# Altium integrated library Analog Devices Data Converters Analog-to-Digital Converters.IntLib: 2400 symbols (part 29 of 338)
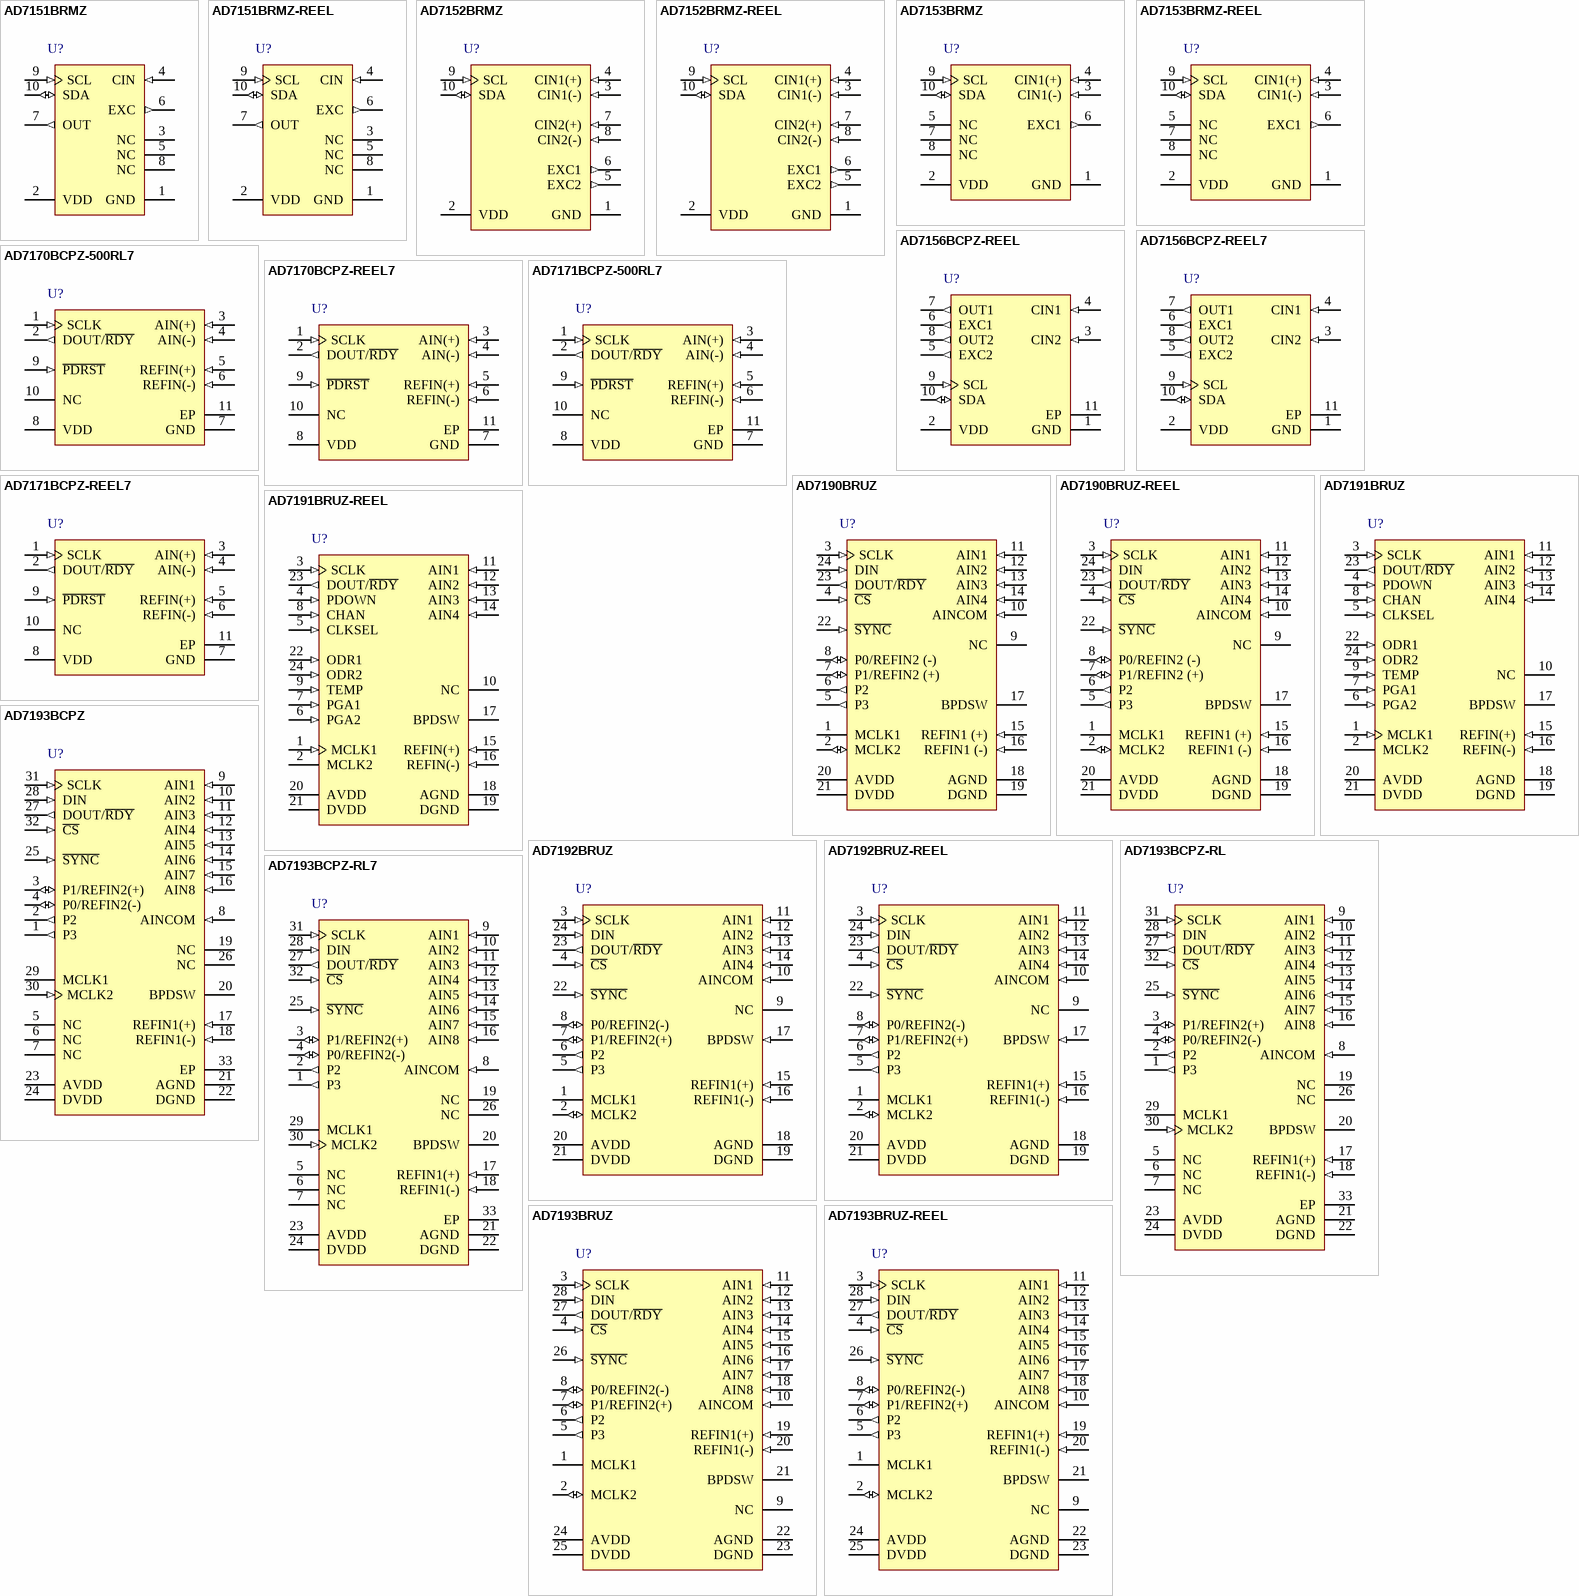
[diagram p171: symbols AD7151BRMZ to AD7193BRUZ-REEL]

## AD7156BCPZ-REEL7
designator U?
Dual 12-Bit Analog-to-Digital Converter with I2C, Serial 2-Wire, Serial Interface, 100SPS, -40 to +85 degC, CP-10-9, Pb-Free, Reel; Part Number: AD7156; Manufacturer: Analog Devices; Resolution (Bits): 12; Channels: 2; Throughput Rate (SPS): 100; Interface: I2C/Ser 2-Wire, Ser; DatasheetVersion: Rev.0; PackageVersion: 02-27-2012-B; PackageReference: CP-10-9; PackageDescription: 10-Lead Lead Frame Chip Scale Package [LFCSP_WD] 3 x 3 mm Body, Very Very Thin, Dual Lead; RoHS: Y; Packing: Reel; Mounting Technology: Surface Mount; ComponentLink1Description: Manufacturer URL; ComponentLink1URL: http://www.analog.com/en/index.html; ComponentLink2Description: Datasheet; ComponentLink2URL: http://www.analog.com/static/imported-files/data_sheets/AD7156.pdf; ComponentLink3Description: Package Specification; ComponentLink3URL: http://www.analog.com/static/imported-files/packages/CP_10_9.pdf; ComponentLink4Description: Product URL; ComponentLink4URL: http://www.analog.com/en/analog-to-digital-converters/ad-converters/ad7156/products/product.html
footprint CP-10-9_N (SON, 10-Leads, Body 3x3mm, Pitch 0.5mm, Thermal Pad 2.35x1.6mm, IPC Medium Density)
footprint CP-10-9_L (SON, 10-Leads, Body 3x3mm, Pitch 0.5mm, Thermal Pad 2.35x1.6mm, IPC High Density)
footprint CP-10-9_M (SON, 10-Leads, Body 3x3mm, Pitch 0.5mm, Thermal Pad 2.35x1.6mm, IPC Low Density)
pins: 1 GND (power) "Ground Pin.", 2 VDD (power) "Power Supply Voltage. This pin should be decoupled to GND using a low impedance capacitor, such as a0.1 uF X7R multilayer ceramic capacitor.", 3 CIN2 (in) "CDC Capacitive Input Channel 2. The measured capacitance (sensor) is connected between the EXC2 pin andthe CIN2 pin. If not used, this pin can be left open circuit or be connected to GND. When a conversion is performed on (See Datasheet)", 4 CIN1 (in) "CDC Capacitive Input Channel 1. The measured capacitance (sensor) is connected between the EXC1 pin and the CIN1 pin. If not used, this pin can be left open circuit or be connected to GND. When a conversion is performed on (See Datasheet)", 5 EXC2 (out) "CDC Excitation Output Channel 2. The measured capacitance is connected between the EXC2 pin and theCIN2 pin. If not used, this pin should be left as an open circuit. When a conversion is performed on Channel 2, the EXC2 pin (See Datasheet)", 6 EXC1 (out) "CDC Excitation Output Channel 1. The measured capacitance is connected between the EXC1 pin and theCIN1 pin. If not used, this pin should be left as an open circuit. When a conversion is performed on Channel 1, the EXC1 pin (See Datasheet)", 7 OUT1 (out) "Logic Output Channel 1. A high level on this output indicates proximity detected on CIN1.", 8 OUT2 (out) "Logic Output Channel 2. A high level on this output indicates proximity detected on CIN2.", 9 SCL (in) "Serial Interface Clock Input. This pin connects to the master clock line and requires a pull-up resistor if not provided elsewhere in the system.", 10 SDA (io) "Serial Interface Bidirectional Data. This pin connects to the master data line and requires a pull-up resistor if not provided elsewhere in the system.", 11 EP (power) "The exposed pad must be connected to GND or it must be isolated (floating)."

## AD7170BCPZ-500RL7
designator U?
Single 12-Bit Low Power Sigma-Delta Analog-to-Digital Converter with Serial, SPI Interface, 125SPS, -40 to +105 degC, CP-10-3, Pb-Free, Reel; Part Number: AD7170; Manufacturer: Analog Devices; Resolution (Bits): 12; Channels: 1; Throughput Rate (SPS): 125; Interface: Ser, SPI; DatasheetVersion: Rev.A; PackageVersion: 2005; PackageReference: CP-10-3; PackageDescription: 10-Lead Lead Frame Chip Scale Package [LFCSP_WD] 3 x 3 mm Body, Very Very Thin, Dual Lead; RoHS: Y; Packing: Reel; Mounting Technology: Surface Mount; ComponentLink1Description: Manufacturer URL; ComponentLink1URL: http://www.analog.com/en/index.html; ComponentLink2Description: Datasheet; ComponentLink2URL: http://www.analog.com/static/imported-files/data_sheets/AD7170.pdf; ComponentLink3Description: Package Specification; ComponentLink3URL: http://www.analog.com/static/imported-files/packages/PKG_PDF/LFCSP(CP)/CP_10_3.pdf; ComponentLink4Description: Product URL; ComponentLink4URL: http://www.analog.com/en/analog-to-digital-converters/ad-converters/ad7170/products/product.html
footprint CP-10-3_N (SON, 10-Leads, Body 3x3mm, Pitch 0.5mm, Thermal Pad 2.3x1.5mm, IPC Medium Density)
footprint CP-10-3_L (SON, 10-Leads, Body 3x3mm, Pitch 0.5mm, Thermal Pad 2.3x1.5mm, IPC High Density)
footprint CP-10-3_M (SON, 10-Leads, Body 3x3mm, Pitch 0.5mm, Thermal Pad 2.3x1.5mm, IPC Low Density)
pins: 1 SCLK (in) "Serial Clock Input. This serial clock input is for data transfers from the ADC. The SCLK has a Schmitt-triggered input. The serial clock can be continuous with all data transmitted in a constant train of pulses. (See Datasheet)", 2 DOUT/~{RDY} (out) "Serial Data Output/Data Ready Output. DOUT/R\D\Y\ serves a dual purpose. DOUT/R\D\Y\ operates as a data ready pin, going low to indicate the completion of a conversion. In addition, it functions as a serial data output pin (See Datasheet)", 3 AIN(+) (in) "Analog Input. AIN(+) is the positive terminal of the differential analog input pair AIN(+)/AIN(-).", 4 AIN(-) (in) "Analog Input. AIN(-) is the negative terminal of the differential analog input pair AIN(+)/AIN(-).", 5 REFIN(+) (in) "Positive Reference Input. An external reference can be applied between REFIN(+) and REFIN(-). The nominal reference voltage (REFIN(+) - REFIN(?)) is 5 V, but the part can function with a reference of 0.5 V to VDD.", 6 REFIN(-) (in) "Negative Reference Input.", 7 GND (power) "Ground Reference Point.", 8 VDD (power) "Supply Voltage, 2.7 V to 5.25 V.", 9 ~{PDRST} (in) "Power-Down/Reset. When this pin is low, the ADC is placed in power-down mode. All the logic on the chip is reset, and the DOUT/R\D\Y\ pin is tristated. When P\D\R\S\T\ is high, the ADC is taken out of power-down mode. The (See Datasheet)", 10 NC "This pin should be connected to GND for correct operation.", 11 EP (power) "Connect the exposed pad to ground."

## AD7170BCPZ-REEL7
designator U?
Single 12-Bit Low Power Sigma-Delta Analog-to-Digital Converter with Serial, SPI Interface, 125SPS, -40 to +105 degC, CP-10-3, Pb-Free, Reel; Part Number: AD7170; Manufacturer: Analog Devices; Resolution (Bits): 12; Channels: 1; Throughput Rate (SPS): 125; Interface: Ser, SPI; DatasheetVersion: Rev.A; PackageVersion: 2005; PackageReference: CP-10-3; PackageDescription: 10-Lead Lead Frame Chip Scale Package [LFCSP_WD] 3 x 3 mm Body, Very Very Thin, Dual Lead; RoHS: Y; Packing: Reel; Mounting Technology: Surface Mount; ComponentLink1Description: Manufacturer URL; ComponentLink1URL: http://www.analog.com/en/index.html; ComponentLink2Description: Datasheet; ComponentLink2URL: http://www.analog.com/static/imported-files/data_sheets/AD7170.pdf; ComponentLink3Description: Package Specification; ComponentLink3URL: http://www.analog.com/static/imported-files/packages/PKG_PDF/LFCSP(CP)/CP_10_3.pdf; ComponentLink4Description: Product URL; ComponentLink4URL: http://www.analog.com/en/analog-to-digital-converters/ad-converters/ad7170/products/product.html
footprint CP-10-3_N (SON, 10-Leads, Body 3x3mm, Pitch 0.5mm, Thermal Pad 2.3x1.5mm, IPC Medium Density)
footprint CP-10-3_L (SON, 10-Leads, Body 3x3mm, Pitch 0.5mm, Thermal Pad 2.3x1.5mm, IPC High Density)
footprint CP-10-3_M (SON, 10-Leads, Body 3x3mm, Pitch 0.5mm, Thermal Pad 2.3x1.5mm, IPC Low Density)
pins: 1 SCLK (in) "Serial Clock Input. This serial clock input is for data transfers from the ADC. The SCLK has a Schmitt-triggered input. The serial clock can be continuous with all data transmitted in a constant train of pulses. (See Datasheet)", 2 DOUT/~{RDY} (out) "Serial Data Output/Data Ready Output. DOUT/R\D\Y\ serves a dual purpose. DOUT/R\D\Y\ operates as a data ready pin, going low to indicate the completion of a conversion. In addition, it functions as a serial data output pin (See Datasheet)", 3 AIN(+) (in) "Analog Input. AIN(+) is the positive terminal of the differential analog input pair AIN(+)/AIN(-).", 4 AIN(-) (in) "Analog Input. AIN(-) is the negative terminal of the differential analog input pair AIN(+)/AIN(-).", 5 REFIN(+) (in) "Positive Reference Input. An external reference can be applied between REFIN(+) and REFIN(-). The nominal reference voltage (REFIN(+) - REFIN(?)) is 5 V, but the part can function with a reference of 0.5 V to VDD.", 6 REFIN(-) (in) "Negative Reference Input.", 7 GND (power) "Ground Reference Point.", 8 VDD (power) "Supply Voltage, 2.7 V to 5.25 V.", 9 ~{PDRST} (in) "Power-Down/Reset. When this pin is low, the ADC is placed in power-down mode. All the logic on the chip is reset, and the DOUT/R\D\Y\ pin is tristated. When P\D\R\S\T\ is high, the ADC is taken out of power-down mode. The (See Datasheet)", 10 NC "This pin should be connected to GND for correct operation.", 11 EP (power) "Connect the exposed pad to ground."

## AD7171BCPZ-500RL7
designator U?
Single 16-Bit Low Power Sigma-Delta Analog-to-Digital Converter with Serial, SPI Interface, 125SPS, -40 to +105 degC, CP-10-3, Pb-Free, Reel; Part Number: AD7171; Manufacturer: Analog Devices; Resolution (Bits): 16; Channels: 1; Throughput Rate (SPS): 125; Interface: Ser, SPI; DatasheetVersion: Rev.0; PackageVersion: 2005; PackageReference: CP-10-3; PackageDescription: 10-Lead Lead Frame Chip Scale Package [LFCSP_WD] 3 x 3 mm Body, Very Very Thin, Dual Lead; RoHS: Y; Packing: Reel; Mounting Technology: Surface Mount; ComponentLink1Description: Manufacturer URL; ComponentLink1URL: http://www.analog.com/en/index.html; ComponentLink2Description: Datasheet; ComponentLink2URL: http://www.analog.com/static/imported-files/data_sheets/AD7171.pdf; ComponentLink3Description: Package Specification; ComponentLink3URL: http://www.analog.com/static/imported-files/packages/PKG_PDF/LFCSP(CP)/CP_10_3.pdf; ComponentLink4Description: Product URL; ComponentLink4URL: http://www.analog.com/en/analog-to-digital-converters/ad-converters/ad7171/products/product.html
footprint CP-10-3_N (SON, 10-Leads, Body 3x3mm, Pitch 0.5mm, Thermal Pad 2.3x1.5mm, IPC Medium Density)
footprint CP-10-3_L (SON, 10-Leads, Body 3x3mm, Pitch 0.5mm, Thermal Pad 2.3x1.5mm, IPC High Density)
footprint CP-10-3_M (SON, 10-Leads, Body 3x3mm, Pitch 0.5mm, Thermal Pad 2.3x1.5mm, IPC Low Density)
pins: 1 SCLK (in) "Serial Clock Input. This serial clock input is for data transfers from the ADC. The SCLK has a Schmitt-triggered input. The serial clock can be continuous with all data transmitted in a constant train of pulses. (See Datasheet)", 2 DOUT/~{RDY} (out) "Serial Data Output/Data Ready Output. DOUT/R\D\Y\ serves a dual purpose. DOUT/R\D\Y\ operates as a data ready pin, going low to indicate the completion of a conversion. In addition, it functions as a serial data output pin (See Datasheet)", 3 AIN(+) (in) "Analog Input. AIN(+) is the positive terminal of the differential analog input pair AIN(+)/AIN(-).", 4 AIN(-) (in) "Analog Input. AIN(-) is the negative terminal of the differential analog input pair AIN(+)/(AIN-).", 5 REFIN(+) (in) "Positive Reference Input. An external reference can be applied between REFIN(+) and REFIN(-). The nominal reference voltage (REFIN(+)- REFIN(-)) is 5 V, but the part can function with a reference of 0.5 V to VDD.", 6 REFIN(-) (in) "Negative Reference Input.", 7 GND (power) "Ground Reference Point.", 8 VDD (power) "Supply Voltage, 2.7 V to 5.25 V.", 9 ~{PDRST} (in) "Power-Down/Reset. When this pin is low, the ADC is placed in power-down mode. All the logic on the chip is reset and the DOUT/R\D\Y\ pin is tristated. When P\D\R\S\T\ is high, the ADC is taken out of power-down mode. The (See Datasheet)", 10 NC "This pin should be connected to GND for correct operation.", 11 EP (power) "Connect the exposed pad to ground."

## AD7171BCPZ-REEL7
designator U?
Single 16-Bit Low Power Sigma-Delta Analog-to-Digital Converter with Serial, SPI Interface, 125SPS, -40 to +105 degC, CP-10-3, Pb-Free, Reel; Part Number: AD7171; Manufacturer: Analog Devices; Resolution (Bits): 16; Channels: 1; Throughput Rate (SPS): 125; Interface: Ser, SPI; DatasheetVersion: Rev.0; PackageVersion: 2005; PackageReference: CP-10-3; PackageDescription: 10-Lead Lead Frame Chip Scale Package [LFCSP_WD] 3 x 3 mm Body, Very Very Thin, Dual Lead; RoHS: Y; Packing: Reel; Mounting Technology: Surface Mount; ComponentLink1Description: Manufacturer URL; ComponentLink1URL: http://www.analog.com/en/index.html; ComponentLink2Description: Datasheet; ComponentLink2URL: http://www.analog.com/static/imported-files/data_sheets/AD7171.pdf; ComponentLink3Description: Package Specification; ComponentLink3URL: http://www.analog.com/static/imported-files/packages/PKG_PDF/LFCSP(CP)/CP_10_3.pdf; ComponentLink4Description: Product URL; ComponentLink4URL: http://www.analog.com/en/analog-to-digital-converters/ad-converters/ad7171/products/product.html
footprint CP-10-3_N (SON, 10-Leads, Body 3x3mm, Pitch 0.5mm, Thermal Pad 2.3x1.5mm, IPC Medium Density)
footprint CP-10-3_L (SON, 10-Leads, Body 3x3mm, Pitch 0.5mm, Thermal Pad 2.3x1.5mm, IPC High Density)
footprint CP-10-3_M (SON, 10-Leads, Body 3x3mm, Pitch 0.5mm, Thermal Pad 2.3x1.5mm, IPC Low Density)
pins: 1 SCLK (in) "Serial Clock Input. This serial clock input is for data transfers from the ADC. The SCLK has a Schmitt-triggered input. The serial clock can be continuous with all data transmitted in a constant train of pulses. (See Datasheet)", 2 DOUT/~{RDY} (out) "Serial Data Output/Data Ready Output. DOUT/R\D\Y\ serves a dual purpose. DOUT/R\D\Y\ operates as a data ready pin, going low to indicate the completion of a conversion. In addition, it functions as a serial data output pin (See Datasheet)", 3 AIN(+) (in) "Analog Input. AIN(+) is the positive terminal of the differential analog input pair AIN(+)/AIN(-).", 4 AIN(-) (in) "Analog Input. AIN(-) is the negative terminal of the differential analog input pair AIN(+)/(AIN-).", 5 REFIN(+) (in) "Positive Reference Input. An external reference can be applied between REFIN(+) and REFIN(-). The nominal reference voltage (REFIN(+)- REFIN(-)) is 5 V, but the part can function with a reference of 0.5 V to VDD.", 6 REFIN(-) (in) "Negative Reference Input.", 7 GND (power) "Ground Reference Point.", 8 VDD (power) "Supply Voltage, 2.7 V to 5.25 V.", 9 ~{PDRST} (in) "Power-Down/Reset. When this pin is low, the ADC is placed in power-down mode. All the logic on the chip is reset and the DOUT/R\D\Y\ pin is tristated. When P\D\R\S\T\ is high, the ADC is taken out of power-down mode. The (See Datasheet)", 10 NC "This pin should be connected to GND for correct operation.", 11 EP (power) "Connect the exposed pad to ground."

## AD7190BRUZ
designator U?
Quad 24-Bit Ultralow Noise Sigma-Delta Analog-to-Digital Converter with Serial, SPI Interface and PGA, 4.8KSPS, -40 to +105 degC, RU-24, Pb-Free, Tube; Part Number: AD7190; Manufacturer: Analog Devices; Resolution (Bits): 24; Channels: 4; Throughput Rate (SPS): 4.8K; Interface: Ser, SPI; DatasheetVersion: Rev.B; PackageVersion: 2002; PackageReference: RU-24; PackageDescription: 24-Lead Thin Shrink Small Outline Package [TSSOP]; RoHS: Y; Packing: Tube; Mounting Technology: Surface Mount; Code_JEDEC: MO-153-AD; ComponentLink1Description: Manufacturer URL; ComponentLink1URL: http://www.analog.com/en/index.html; ComponentLink2Description: Datasheet; ComponentLink2URL: http://www.analog.com/static/imported-files/data_sheets/AD7190.pdf; ComponentLink3Description: Package Specification; ComponentLink3URL: http://www.analog.com/static/imported-files/packages/380523655245964505593671154107510036154RU24.pdf; ComponentLink4Description: Product URL; ComponentLink4URL: http://www.analog.com/en/analog-to-digital-converters/ad-converters/ad7190/products/product.html
footprint RU-24_N (TSOP, 24-Leads, Body 7.8x4.4mm, Pitch 0.65mm, IPC Medium Density)
footprint RU-24_L (TSOP, 24-Leads, Body 7.8x4.4mm, Pitch 0.65mm, IPC High Density)
footprint RU-24_M (TSOP, 24-Leads, Body 7.8x4.4mm, Pitch 0.65mm, IPC Low Density)
pins: 1 MCLK1 "When the master clock for the device is provided externally by a crystal, the crystal is connected between MCLK1 and MCLK2.", 2 MCLK2 (io) "Master Clock Signal for the Device. The AD7190 has an internal 4.92 MHz clock. This internal clock can be made available on the MCLK2 pin. The clock for the AD7190 can be provided externally also in the form of a crystal or (See Datasheet)", 3 SCLK (in) "Serial Clock Input. This serial clock input is for data transfers to and from the ADC. The SCLK has a Schmitt-triggered input, making the interface suitable for opto-isolated applications. The serial clock can be continuous (See Datasheet)", 4 ~{CS} (in) "Chip Select Input. This is an active low logic input used to select the ADC. C\S\ can be used to select the ADC in systems with more than one device on the serial bus or as a frame synchronization signal in communicating (See Datasheet)", 5 P3 (out) "Digital Output Pin. This pin can function as a general-purpose output bit referenced between AVDD and AGND.", 6 P2 (out) "Digital Output Pin. This pin can function as a general-purpose output bit referenced between AVDD and AGND.", 7 P1/REFIN2 (+) (io) "Digital Output Pin/Positive Reference Input. This pin functions as a general-purpose output bit referenced between AVDD and AGND. When REFSEL = 1, this pin functions as REFIN2(+). An external reference can be applied between (See Datasheet)", 8 P0/REFIN2 (-) (io) "Digital Output Pin/Negative Reference Input. This pin functions as a general-purpose output bit referenced between AVDD and AGND. When REFSEL = 1, this pin functions as REFIN2(-). This reference input can lie anywhere (See Datasheet)", 9 NC "No Connect. This pin should be tied to AGND.", 10 AINCOM (in) "Analog Input AIN1 to Analog Input AIN4 are referenced to this input when configured for pseudo differential operation.", 11 AIN1 (in) "Analog Input. It can be configured as the positive input of a fully differential input pair when used with AIN2 or as a pseudo differential input when used with AINCOM.", 12 AIN2 (in) "Analog Input. It can be configured as the negative input of a fully differential input pair when used with AIN1 or as a pseudo differential input when used with AINCOM.", 13 AIN3 (in) "Analog Input. It can be configured as the positive input of a fully differential input pair when used with AIN4 or as a pseudo differential input when used with AINCOM.", 14 AIN4 (in) "Analog Input. It can be configured as the negative input of a fully differential input pair when used with AIN3 or as a pseudo differential input when used with AINCOM.", 15 REFIN1 (+) (in) "Positive Reference Input. An external reference can be applied between REFIN1(+) and REFIN1(-). REFIN1(+) can lie anywhere between AVDD and AGND + 1 V. The nominal reference voltage, (REFIN1(+) - REFIN1(-)), is AVDD, but the (See Datasheet)", 16 REFIN1 (-) (in) "Negative Reference Input. This reference input can lie anywhere between AGND and AVDD -1 V.", 17 BPDSW "Bridge Power-Down Switch to AGND.", 18 AGND (power) "Analog Ground Reference Point.", 19 DGND (power) "Digital Ground Reference Point.", 20 AVDD (power) "Analog Supply Voltage, 4.75 V to 5.25 V. AVDD is independent of DVDD.", 21 DVDD (power) "Digital Supply Voltage, 2.7 V to 5.25 V. DVDD is independent of AVDD.", 22 ~{SYNC} (in) "Logic input that allows for synchronization of the digital filters and analog modulators when using multiple AD7190 devices. While S\Y\N\C\ is low, the nodes of the digital filter, the filter control logic, and the (See Datasheet)", 23 DOUT/~{RDY} (out) "Serial Data Output/Data Ready Output. DOUT/R\D\Y\serves a dual purpose. It functions as a serial data output pin to access the output shift register of the ADC. The output shift register can contain data from any of the (See Datasheet)", 24 DIN (in) "Serial Data Input to the Input Shift Register on the ADC. Data in this shift register is transferred to the control registers in the ADC, with the register selection bits of the communications register identifying the (See Datasheet)"

## AD7190BRUZ-REEL
designator U?
Quad 24-Bit Ultralow Noise Sigma-Delta Analog-to-Digital Converter with Serial, SPI Interface and PGA, 4.8KSPS, -40 to +105 degC, RU-24, Pb-Free, Reel; Part Number: AD7190; Manufacturer: Analog Devices; Resolution (Bits): 24; Channels: 4; Throughput Rate (SPS): 4.8K; Interface: Ser, SPI; DatasheetVersion: Rev.B; PackageVersion: 2002; PackageReference: RU-24; PackageDescription: 24-Lead Thin Shrink Small Outline Package [TSSOP]; RoHS: Y; Packing: Reel; Mounting Technology: Surface Mount; Code_JEDEC: MO-153-AD; ComponentLink1Description: Manufacturer URL; ComponentLink1URL: http://www.analog.com/en/index.html; ComponentLink2Description: Datasheet; ComponentLink2URL: http://www.analog.com/static/imported-files/data_sheets/AD7190.pdf; ComponentLink3Description: Package Specification; ComponentLink3URL: http://www.analog.com/static/imported-files/packages/380523655245964505593671154107510036154RU24.pdf; ComponentLink4Description: Product URL; ComponentLink4URL: http://www.analog.com/en/analog-to-digital-converters/ad-converters/ad7190/products/product.html
footprint RU-24_N (TSOP, 24-Leads, Body 7.8x4.4mm, Pitch 0.65mm, IPC Medium Density)
footprint RU-24_L (TSOP, 24-Leads, Body 7.8x4.4mm, Pitch 0.65mm, IPC High Density)
footprint RU-24_M (TSOP, 24-Leads, Body 7.8x4.4mm, Pitch 0.65mm, IPC Low Density)
pins: 1 MCLK1 "When the master clock for the device is provided externally by a crystal, the crystal is connected between MCLK1 and MCLK2.", 2 MCLK2 (io) "Master Clock Signal for the Device. The AD7190 has an internal 4.92 MHz clock. This internal clock can be made available on the MCLK2 pin. The clock for the AD7190 can be provided externally also in the form of a crystal or (See Datasheet)", 3 SCLK (in) "Serial Clock Input. This serial clock input is for data transfers to and from the ADC. The SCLK has a Schmitt-triggered input, making the interface suitable for opto-isolated applications. The serial clock can be continuous (See Datasheet)", 4 ~{CS} (in) "Chip Select Input. This is an active low logic input used to select the ADC. C\S\ can be used to select the ADC in systems with more than one device on the serial bus or as a frame synchronization signal in communicating (See Datasheet)", 5 P3 (out) "Digital Output Pin. This pin can function as a general-purpose output bit referenced between AVDD and AGND.", 6 P2 (out) "Digital Output Pin. This pin can function as a general-purpose output bit referenced between AVDD and AGND.", 7 P1/REFIN2 (+) (io) "Digital Output Pin/Positive Reference Input. This pin functions as a general-purpose output bit referenced between AVDD and AGND. When REFSEL = 1, this pin functions as REFIN2(+). An external reference can be applied between (See Datasheet)", 8 P0/REFIN2 (-) (io) "Digital Output Pin/Negative Reference Input. This pin functions as a general-purpose output bit referenced between AVDD and AGND. When REFSEL = 1, this pin functions as REFIN2(-). This reference input can lie anywhere (See Datasheet)", 9 NC "No Connect. This pin should be tied to AGND.", 10 AINCOM (in) "Analog Input AIN1 to Analog Input AIN4 are referenced to this input when configured for pseudo differential operation.", 11 AIN1 (in) "Analog Input. It can be configured as the positive input of a fully differential input pair when used with AIN2 or as a pseudo differential input when used with AINCOM.", 12 AIN2 (in) "Analog Input. It can be configured as the negative input of a fully differential input pair when used with AIN1 or as a pseudo differential input when used with AINCOM.", 13 AIN3 (in) "Analog Input. It can be configured as the positive input of a fully differential input pair when used with AIN4 or as a pseudo differential input when used with AINCOM.", 14 AIN4 (in) "Analog Input. It can be configured as the negative input of a fully differential input pair when used with AIN3 or as a pseudo differential input when used with AINCOM.", 15 REFIN1 (+) (in) "Positive Reference Input. An external reference can be applied between REFIN1(+) and REFIN1(-). REFIN1(+) can lie anywhere between AVDD and AGND + 1 V. The nominal reference voltage, (REFIN1(+) - REFIN1(-)), is AVDD, but the (See Datasheet)", 16 REFIN1 (-) (in) "Negative Reference Input. This reference input can lie anywhere between AGND and AVDD -1 V.", 17 BPDSW "Bridge Power-Down Switch to AGND.", 18 AGND (power) "Analog Ground Reference Point.", 19 DGND (power) "Digital Ground Reference Point.", 20 AVDD (power) "Analog Supply Voltage, 4.75 V to 5.25 V. AVDD is independent of DVDD.", 21 DVDD (power) "Digital Supply Voltage, 2.7 V to 5.25 V. DVDD is independent of AVDD.", 22 ~{SYNC} (in) "Logic input that allows for synchronization of the digital filters and analog modulators when using multiple AD7190 devices. While S\Y\N\C\ is low, the nodes of the digital filter, the filter control logic, and the (See Datasheet)", 23 DOUT/~{RDY} (out) "Serial Data Output/Data Ready Output. DOUT/R\D\Y\serves a dual purpose. It functions as a serial data output pin to access the output shift register of the ADC. The output shift register can contain data from any of the (See Datasheet)", 24 DIN (in) "Serial Data Input to the Input Shift Register on the ADC. Data in this shift register is transferred to the control registers in the ADC, with the register selection bits of the communications register identifying the (See Datasheet)"

## AD7191BRUZ
designator U?
3 Channel 24-Bit Ultralow Noise Sigma-Delta Analog-to-Digital Converter for Bridge Sensors with Serial, SPI Interface, Pin-Programmable, 120SPS, -40 to +105 degC, RU-24, Pb-Free, Tube; Part Number: AD7191; Manufacturer: Analog Devices; Resolution (Bits): 24; Channels: 3; Throughput Rate (SPS): 120; Interface: Ser, SPI; DatasheetVersion: Rev.A; PackageVersion: 2002; PackageReference: RU-24; PackageDescription: 24-Lead Thin Shrink Small Outline Package [TSSOP]; RoHS: Y; Packing: Tube; Mounting Technology: Surface Mount; Code_JEDEC: MO-153-AD; ComponentLink1Description: Manufacturer URL; ComponentLink1URL: http://www.analog.com/en/index.html; ComponentLink2Description: Datasheet; ComponentLink2URL: http://www.analog.com/static/imported-files/data_sheets/AD7191.pdf; ComponentLink3Description: Package Specification; ComponentLink3URL: http://www.analog.com/static/imported-files/packages/380523655245964505593671154107510036154RU24.pdf; ComponentLink4Description: Product URL; ComponentLink4URL: http://www.analog.com/en/analog-to-digital-converters/ad-converters/ad7191/products/product.html
footprint RU-24_N (TSOP, 24-Leads, Body 7.8x4.4mm, Pitch 0.65mm, IPC Medium Density)
footprint RU-24_L (TSOP, 24-Leads, Body 7.8x4.4mm, Pitch 0.65mm, IPC High Density)
footprint RU-24_M (TSOP, 24-Leads, Body 7.8x4.4mm, Pitch 0.65mm, IPC Low Density)
pins: 1 MCLK1 (in) "When the master clock for the device is provided externally by a crystal, the crystal is connected between MCLK1 and MCLK2. Alternatively, the MCLK1 pin can be driven with a CMOS-compatible clock and MCLK2 left unconnected.", 2 MCLK2 "When the master clock for the device is provided externally by a crystal, the crystal is connected between MCLK1 and MCLK2.", 3 SCLK (in) "Serial Clock Input. This serial clock input is for controlling data transfers from the ADC. The SCLK has a Schmitt-triggered input, making the interface suitable for opto-isolated applications. The serial clock can be (See Datasheet)", 4 PDOWN (in) "Power-Down Pin, Digital Input. The PDOWN pin functions as a power-down pin and a reset pin. When PDOWN is taken high, the AD7191 is powered down and the DOUT/R\D\Y\ pin is tristated. The circuitry and serial interface are (See Datasheet)", 5 CLKSEL (in) "Clock Select, Digital Input Pin. This pin selects the clock source to be used by the AD7191. When CLKSEL is tied low, the external clock/crystal is used as the clock source. When CLKSEL is tied high, the internal 4.92 MHz (See Datasheet)", 6 PGA2 (in) "Gain Select, Digital Input Pin. This pin is used in conjunction with PGA1 to set the gain. See Table 7.", 7 PGA1 (in) "Gain Select, Digital Input Pin. This pin is used in conjunction with PGA2 to set the gain. See Table 7.", 8 CHAN (in) "Channel Select, Digital Input Pin. This pin is used to select the channel. When CHAN is tied low, channel AIN1/AIN2 is selected. When CHAN is tied high, channel AIN3/AIN4 is selected.", 9 TEMP (in) "Temperature Sensor Select, Digital Input Pin. The internal temperature sensor is selected when TEMP is tied high. When TEMP is tied low, the analog input channel AIN1/AIN2 or AIN3/AIN4 is the selected channel (as determined (See Datasheet)", 10 NC "No Connect. This pin should be tied to AGND.", 11 AIN1 (in) "Analog Input. AIN1 is the positive input of the fully differential input pair AIN1/AIN2.", 12 AIN2 (in) "Analog Input. AIN2 is the negative input of the fully differential input pair AIN1/AIN2.", 13 AIN3 (in) "Analog Input. AIN3 is the positive input of the fully differential input pair AIN3/AIN4.", 14 AIN4 (in) "Analog Input. AIN4 is the negative input of the fully differential input pair AIN3/AIN4.", 15 REFIN(+) (in) "Positive Reference Input. An external reference can be applied between REFIN(+) and REFIN(-). REFIN(+) can lie anywhere between AVDD and AGND + 1 V. The nominal reference voltage, (REFIN(+) - REFIN(-)), is AVDD, but the part (See Datasheet)", 16 REFIN(-) (in) "Negative Reference Input. This reference input can lie anywhere between AGND and AVDD -1 V.", 17 BPDSW "Bridge Power-Down Switch to AGND. When PDOWN is low, the bridge power-down switch is closed. When PDOWN is high, the bridge power-down switch is opened.", 18 AGND (power) "Analog Ground Reference Point.", 19 DGND (power) "Digital Ground Reference Point.", 20 AVDD (power) "Analog Supply Voltage, 3 V to 5.25 V. AVDD is independent of DVDD. Therefore, DVDD can be operated at 3 V with AVDD at 5 V or vice versa.", 21 DVDD (power) "Digital Supply Voltage, 2.7 V to 5.25 V. DVDD is independent of AVDD. Therefore, AVDD can be operated at 3 V with DVDD at 5 V or vice versa.", 22 ODR1 (in) "Output Data Rate, Digital Input Pin. This pin is used with ODR2 to select the output data rate. See Table 5.", 23 DOUT/~{RDY} (out) "Serial Data Output/Data Ready Output. DOUT/R\D\Y\serves a dual purpose. It functions as a serial data output pin to access the data conversions from the ADC. In addition, DOUT/R\D\Y\operates as a data ready pin, going low to (See Datasheet)", 24 ODR2 (in) "Output Data Rate, Digital Input Pin. This pin is used with ODR1 to select the output data rate. See Table 5."

## AD7191BRUZ-REEL
designator U?
3 Channel 24-Bit Ultralow Noise Sigma-Delta Analog-to-Digital Converter for Bridge Sensors with Serial, SPI Interface, Pin-Programmable, 120SPS, -40 to +105 degC, RU-24, Pb-Free, Reel; Part Number: AD7191; Manufacturer: Analog Devices; Resolution (Bits): 24; Channels: 3; Throughput Rate (SPS): 120; Interface: Ser, SPI; DatasheetVersion: Rev.A; PackageVersion: 2002; PackageReference: RU-24; PackageDescription: 24-Lead Thin Shrink Small Outline Package [TSSOP]; RoHS: Y; Packing: Reel; Mounting Technology: Surface Mount; Code_JEDEC: MO-153-AD; ComponentLink1Description: Manufacturer URL; ComponentLink1URL: http://www.analog.com/en/index.html; ComponentLink2Description: Datasheet; ComponentLink2URL: http://www.analog.com/static/imported-files/data_sheets/AD7191.pdf; ComponentLink3Description: Package Specification; ComponentLink3URL: http://www.analog.com/static/imported-files/packages/380523655245964505593671154107510036154RU24.pdf; ComponentLink4Description: Product URL; ComponentLink4URL: http://www.analog.com/en/analog-to-digital-converters/ad-converters/ad7191/products/product.html
footprint RU-24_N (TSOP, 24-Leads, Body 7.8x4.4mm, Pitch 0.65mm, IPC Medium Density)
footprint RU-24_L (TSOP, 24-Leads, Body 7.8x4.4mm, Pitch 0.65mm, IPC High Density)
footprint RU-24_M (TSOP, 24-Leads, Body 7.8x4.4mm, Pitch 0.65mm, IPC Low Density)
pins: 1 MCLK1 (in) "When the master clock for the device is provided externally by a crystal, the crystal is connected between MCLK1 and MCLK2. Alternatively, the MCLK1 pin can be driven with a CMOS-compatible clock and MCLK2 left unconnected.", 2 MCLK2 "When the master clock for the device is provided externally by a crystal, the crystal is connected between MCLK1 and MCLK2.", 3 SCLK (in) "Serial Clock Input. This serial clock input is for controlling data transfers from the ADC. The SCLK has a Schmitt-triggered input, making the interface suitable for opto-isolated applications. The serial clock can be (See Datasheet)", 4 PDOWN (in) "Power-Down Pin, Digital Input. The PDOWN pin functions as a power-down pin and a reset pin. When PDOWN is taken high, the AD7191 is powered down and the DOUT/R\D\Y\ pin is tristated. The circuitry and serial interface are (See Datasheet)", 5 CLKSEL (in) "Clock Select, Digital Input Pin. This pin selects the clock source to be used by the AD7191. When CLKSEL is tied low, the external clock/crystal is used as the clock source. When CLKSEL is tied high, the internal 4.92 MHz (See Datasheet)", 6 PGA2 (in) "Gain Select, Digital Input Pin. This pin is used in conjunction with PGA1 to set the gain. See Table 7.", 7 PGA1 (in) "Gain Select, Digital Input Pin. This pin is used in conjunction with PGA2 to set the gain. See Table 7.", 8 CHAN (in) "Channel Select, Digital Input Pin. This pin is used to select the channel. When CHAN is tied low, channel AIN1/AIN2 is selected. When CHAN is tied high, channel AIN3/AIN4 is selected.", 9 TEMP (in) "Temperature Sensor Select, Digital Input Pin. The internal temperature sensor is selected when TEMP is tied high. When TEMP is tied low, the analog input channel AIN1/AIN2 or AIN3/AIN4 is the selected channel (as determined (See Datasheet)", 10 NC "No Connect. This pin should be tied to AGND.", 11 AIN1 (in) "Analog Input. AIN1 is the positive input of the fully differential input pair AIN1/AIN2.", 12 AIN2 (in) "Analog Input. AIN2 is the negative input of the fully differential input pair AIN1/AIN2.", 13 AIN3 (in) "Analog Input. AIN3 is the positive input of the fully differential input pair AIN3/AIN4.", 14 AIN4 (in) "Analog Input. AIN4 is the negative input of the fully differential input pair AIN3/AIN4.", 15 REFIN(+) (in) "Positive Reference Input. An external reference can be applied between REFIN(+) and REFIN(-). REFIN(+) can lie anywhere between AVDD and AGND + 1 V. The nominal reference voltage, (REFIN(+) - REFIN(-)), is AVDD, but the part (See Datasheet)", 16 REFIN(-) (in) "Negative Reference Input. This reference input can lie anywhere between AGND and AVDD -1 V.", 17 BPDSW "Bridge Power-Down Switch to AGND. When PDOWN is low, the bridge power-down switch is closed. When PDOWN is high, the bridge power-down switch is opened.", 18 AGND (power) "Analog Ground Reference Point.", 19 DGND (power) "Digital Ground Reference Point.", 20 AVDD (power) "Analog Supply Voltage, 3 V to 5.25 V. AVDD is independent of DVDD. Therefore, DVDD can be operated at 3 V with AVDD at 5 V or vice versa.", 21 DVDD (power) "Digital Supply Voltage, 2.7 V to 5.25 V. DVDD is independent of AVDD. Therefore, AVDD can be operated at 3 V with DVDD at 5 V or vice versa.", 22 ODR1 (in) "Output Data Rate, Digital Input Pin. This pin is used with ODR2 to select the output data rate. See Table 5.", 23 DOUT/~{RDY} (out) "Serial Data Output/Data Ready Output. DOUT/R\D\Y\serves a dual purpose. It functions as a serial data output pin to access the data conversions from the ADC. In addition, DOUT/R\D\Y\operates as a data ready pin, going low to (See Datasheet)", 24 ODR2 (in) "Output Data Rate, Digital Input Pin. This pin is used with ODR1 to select the output data rate. See Table 5."

## AD7192BRUZ
designator U?
Quad 24-Bit Ultralow Noise Sigma-Delta Analog-to-Digital Converter with Serial, SPI Interface and PGA, 4.8KSPS, -40 to +105 degC, RU-24, Pb-Free, Tube; Part Number: AD7192; Manufacturer: Analog Devices; Resolution (Bits): 24; Channels: 4; Throughput Rate (SPS): 4.8K; Interface: Ser, SPI; DatasheetVersion: Rev.A; PackageVersion: 2002; PackageReference: RU-24; PackageDescription: 24-Lead Thin Shrink Small Outline Package [TSSOP]; RoHS: Y; Packing: Tube; Mounting Technology: Surface Mount; Code_JEDEC: MO-153-AD; ComponentLink1Description: Manufacturer URL; ComponentLink1URL: http://www.analog.com/en/index.html; ComponentLink2Description: Datasheet; ComponentLink2URL: http://www.analog.com/static/imported-files/data_sheets/AD7192.pdf; ComponentLink3Description: Package Specification; ComponentLink3URL: http://www.analog.com/static/imported-files/packages/380523655245964505593671154107510036154RU24.pdf; ComponentLink4Description: Product URL; ComponentLink4URL: http://www.analog.com/en/analog-to-digital-converters/ad-converters/ad7192/products/product.html
footprint RU-24_N (TSOP, 24-Leads, Body 7.8x4.4mm, Pitch 0.65mm, IPC Medium Density)
footprint RU-24_L (TSOP, 24-Leads, Body 7.8x4.4mm, Pitch 0.65mm, IPC High Density)
footprint RU-24_M (TSOP, 24-Leads, Body 7.8x4.4mm, Pitch 0.65mm, IPC Low Density)
pins: 1 MCLK1 "When the master clock for the device is provided externally by a crystal, the crystal is connected between MCLK1 and MCLK2.", 2 MCLK2 (io) "Master Clock Signal for the Device. The AD7192 has an internal 4.92 MHz clock. This internal clock can be made available on the MCLK2 pin. The clock for the AD7192 can be provided externally also in the form of a crystal or (See Datasheet)", 3 SCLK (in) "Serial Clock Input. This serial clock input is for data transfers to and from the ADC. The SCLK has a Schmitt-triggered input, making the interface suitable for opto-isolated applications. The serial clock can be continuous (See Datasheet)", 4 ~{CS} (in) "Chip Select Input. This is an active low logic input used to select the ADC. C\S\ can be used to select the ADC in systems with more than one device on the serial bus or as a frame synchronization signal in communicating (See Datasheet)", 5 P3 (out) "Digital Output Pin. This pin can function as a general-purpose output bit referenced between AVDD and AGND.", 6 P2 (out) "Digital Output Pin. This pin can function as a general-purpose output bit referenced between AVDD and AGND.", 7 P1/REFIN2(+) (io) "Digital Output Pin/Positive Reference Input. This pin functions as a general-purpose output bit referenced between AVDD and AGND. When the REFSEL bit in the configuration register = 1, this pin functions as REFIN2(+). An (See Datasheet)", 8 P0/REFIN2(-) (io) "Digital Output Pin/Negative Reference Input. This pin functions as a general-purpose output bit referenced between AVDD and AGND. When the REFSEL bit in the configuration register = 1, this pin functions as REFIN2(-). This (See Datasheet)", 9 NC "No Connect. This pin should be tied to AGND.", 10 AINCOM (in) "Analog inputs AIN1 to AIN4 are referenced to this input when configured for pseudodifferential operation.", 11 AIN1 (in) "Analog Input. This pin can be configured as the positive input of a fully differential input pair when used with AIN2 or as a pseudodifferential input when used with AINCOM.", 12 AIN2 (in) "Analog Input. This pin can be configured as the negative input of a fully differential input pair when used with AIN1 or as a pseudodifferential input when used with AINCOM.", 13 AIN3 (in) "Analog Input. This pin can be configured as the positive input of a fully differential input pair when used with AIN4 or as a pseudodifferential input when used with AINCOM.", 14 AIN4 (in) "Analog Input. This pin can be configured as the negative input of a fully differential input pair when used with AIN3 or as a pseudodifferential input when used with AINCOM.", 15 REFIN1(+) (in) "Positive Reference Input. An external reference can be applied between REFIN1(+) and REFIN1(-). REFIN1(+) can lie anywhere between AVDD and AGND + 1 V. The nominal reference voltage, (REFIN1(+) - REFIN1(-)), is AVDD, but the (See Datasheet)", 16 REFIN1(-) (in) "Negative Reference Input. This reference input can lie anywhere between AGND and AVDD - 1 V.", 17 BPDSW (in) "Bridge Power-Down Switch to AGND.", 18 AGND (power) "Analog Ground Reference Point", 19 DGND (power) "Digital Ground Reference Point.", 20 AVDD (power) "Analog Supply Voltage, 3 V to 5.25 V. AVDD is independent of DVDD. Therefore, DVDD can be operated at 3 V with AVDD at 5 V or vice versa.", 21 DVDD (power) "Digital Supply Voltage, 2.7 V to 5.25 V. DVDD is independent of AVDD. Therefore, AVDD can be operated at 3 V with DVDD at 5 V or vice versa.", 22 ~{SYNC} (in) "Logic input that allows for synchronization of the digital filters and analog modulators when using a number of AD7192 devices. While S\Y\N\C\ is low, the nodes of the digital filter, the filter control logic, and the (See Datasheet)", 23 DOUT/~{RDY} (out) "Serial Data Output/Data Ready Output. DOUT/R\D\Y\ serves a dual purpose. It functions as a serial data output pin to access the output shift register of the ADC. The output shift register can contain data from any of the (See Datasheet)", 24 DIN (in) "Serial Data Input to the Input Shift Register on the ADC. Data in this shift register is transferred to the control registers in the ADC, with the register selection bits of the communications register identifying the (See Datasheet)"

## AD7192BRUZ-REEL
designator U?
Quad 24-Bit Ultralow Noise Sigma-Delta Analog-to-Digital Converter with Serial, SPI Interface and PGA, 4.8KSPS, -40 to +105 degC, RU-24, Pb-Free, Reel; Part Number: AD7192; Manufacturer: Analog Devices; Resolution (Bits): 24; Channels: 4; Throughput Rate (SPS): 4.8K; Interface: Ser, SPI; DatasheetVersion: Rev.A; PackageVersion: 2002; PackageReference: RU-24; PackageDescription: 24-Lead Thin Shrink Small Outline Package [TSSOP]; RoHS: Y; Packing: Reel; Mounting Technology: Surface Mount; Code_JEDEC: MO-153-AD; ComponentLink1Description: Manufacturer URL; ComponentLink1URL: http://www.analog.com/en/index.html; ComponentLink2Description: Datasheet; ComponentLink2URL: http://www.analog.com/static/imported-files/data_sheets/AD7192.pdf; ComponentLink3Description: Package Specification; ComponentLink3URL: http://www.analog.com/static/imported-files/packages/380523655245964505593671154107510036154RU24.pdf; ComponentLink4Description: Product URL; ComponentLink4URL: http://www.analog.com/en/analog-to-digital-converters/ad-converters/ad7192/products/product.html
footprint RU-24_N (TSOP, 24-Leads, Body 7.8x4.4mm, Pitch 0.65mm, IPC Medium Density)
footprint RU-24_L (TSOP, 24-Leads, Body 7.8x4.4mm, Pitch 0.65mm, IPC High Density)
footprint RU-24_M (TSOP, 24-Leads, Body 7.8x4.4mm, Pitch 0.65mm, IPC Low Density)
pins: 1 MCLK1 "When the master clock for the device is provided externally by a crystal, the crystal is connected between MCLK1 and MCLK2.", 2 MCLK2 (io) "Master Clock Signal for the Device. The AD7192 has an internal 4.92 MHz clock. This internal clock can be made available on the MCLK2 pin. The clock for the AD7192 can be provided externally also in the form of a crystal or (See Datasheet)", 3 SCLK (in) "Serial Clock Input. This serial clock input is for data transfers to and from the ADC. The SCLK has a Schmitt-triggered input, making the interface suitable for opto-isolated applications. The serial clock can be continuous (See Datasheet)", 4 ~{CS} (in) "Chip Select Input. This is an active low logic input used to select the ADC. C\S\ can be used to select the ADC in systems with more than one device on the serial bus or as a frame synchronization signal in communicating (See Datasheet)", 5 P3 (out) "Digital Output Pin. This pin can function as a general-purpose output bit referenced between AVDD and AGND.", 6 P2 (out) "Digital Output Pin. This pin can function as a general-purpose output bit referenced between AVDD and AGND.", 7 P1/REFIN2(+) (io) "Digital Output Pin/Positive Reference Input. This pin functions as a general-purpose output bit referenced between AVDD and AGND. When the REFSEL bit in the configuration register = 1, this pin functions as REFIN2(+). An (See Datasheet)", 8 P0/REFIN2(-) (io) "Digital Output Pin/Negative Reference Input. This pin functions as a general-purpose output bit referenced between AVDD and AGND. When the REFSEL bit in the configuration register = 1, this pin functions as REFIN2(-). This (See Datasheet)", 9 NC "No Connect. This pin should be tied to AGND.", 10 AINCOM (in) "Analog inputs AIN1 to AIN4 are referenced to this input when configured for pseudodifferential operation.", 11 AIN1 (in) "Analog Input. This pin can be configured as the positive input of a fully differential input pair when used with AIN2 or as a pseudodifferential input when used with AINCOM.", 12 AIN2 (in) "Analog Input. This pin can be configured as the negative input of a fully differential input pair when used with AIN1 or as a pseudodifferential input when used with AINCOM.", 13 AIN3 (in) "Analog Input. This pin can be configured as the positive input of a fully differential input pair when used with AIN4 or as a pseudodifferential input when used with AINCOM.", 14 AIN4 (in) "Analog Input. This pin can be configured as the negative input of a fully differential input pair when used with AIN3 or as a pseudodifferential input when used with AINCOM.", 15 REFIN1(+) (in) "Positive Reference Input. An external reference can be applied between REFIN1(+) and REFIN1(-). REFIN1(+) can lie anywhere between AVDD and AGND + 1 V. The nominal reference voltage, (REFIN1(+) - REFIN1(-)), is AVDD, but the (See Datasheet)", 16 REFIN1(-) (in) "Negative Reference Input. This reference input can lie anywhere between AGND and AVDD - 1 V.", 17 BPDSW (in) "Bridge Power-Down Switch to AGND.", 18 AGND (power) "Analog Ground Reference Point", 19 DGND (power) "Digital Ground Reference Point.", 20 AVDD (power) "Analog Supply Voltage, 3 V to 5.25 V. AVDD is independent of DVDD. Therefore, DVDD can be operated at 3 V with AVDD at 5 V or vice versa.", 21 DVDD (power) "Digital Supply Voltage, 2.7 V to 5.25 V. DVDD is independent of AVDD. Therefore, AVDD can be operated at 3 V with DVDD at 5 V or vice versa.", 22 ~{SYNC} (in) "Logic input that allows for synchronization of the digital filters and analog modulators when using a number of AD7192 devices. While S\Y\N\C\ is low, the nodes of the digital filter, the filter control logic, and the (See Datasheet)", 23 DOUT/~{RDY} (out) "Serial Data Output/Data Ready Output. DOUT/R\D\Y\ serves a dual purpose. It functions as a serial data output pin to access the output shift register of the ADC. The output shift register can contain data from any of the (See Datasheet)", 24 DIN (in) "Serial Data Input to the Input Shift Register on the ADC. Data in this shift register is transferred to the control registers in the ADC, with the register selection bits of the communications register identifying the (See Datasheet)"